# Altium footprint library Connector.PcbLib: 3 footprints
Each footprint in its own frame and in the unit in brackets; x right, y up, seen from the top. Pads: shape width x height; smd on the part's side, far side on the other; paste and mask are expansions set on the pad; w line width, h text height; cw(c..) or ccw(c..) is an arc to the next point about the centre after c.
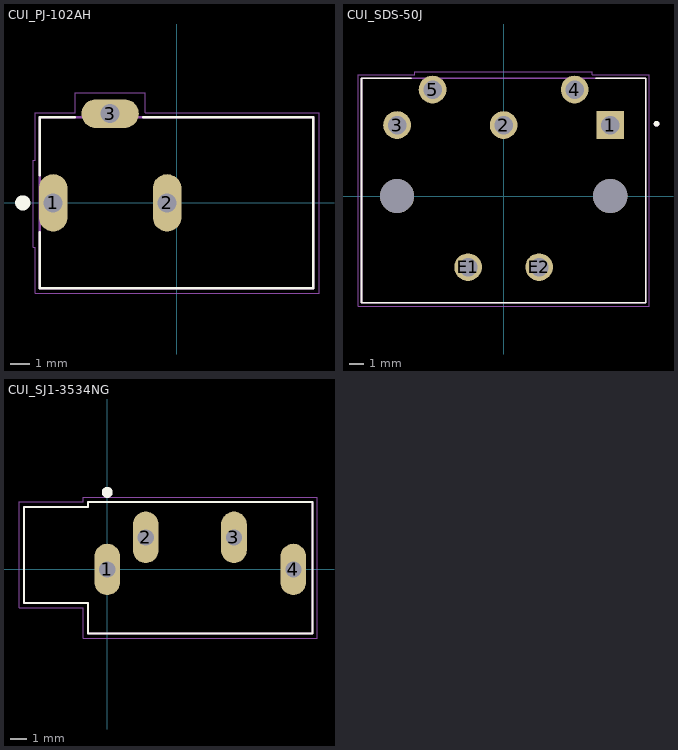
[diagram p0: the footprints below, top view; thin cyan lines are the x and y axes]

## CUI_PJ-102AH [mm]
pads (3):
  oval 1.508x3.016 hole 1 square: 1(-6.5,0) 2(-0.5,0)
  oval 3.016x1.508 hole 1 square: 3(-3.5,4.7)
Top Overlay:
  circle w0.4: c-8.1,0 r0.2
  lines w0.127: -7.2,-1.55 -7.2,-4.5 7.2,-4.5 7.2,4.5 -1.75,4.5 ; -7.2,1.45 -7.2,4.5 -5.35,4.5
Mechanical 13:
  lines w0.127: -7.2,-4.5 -7.2,4.5 7.2,4.5 7.2,-4.5 -7.2,-4.5
Mechanical 15:
  lines w0.05: -7.55,-2.35 -7.45,-2.35 -7.45,-4.75 7.5,-4.75 7.5,4.75 -1.65,4.75 -1.65,5.8 -5.35,5.8 -5.35,4.75 -7.45,4.75 -7.45,2.25 -7.55,2.25 -7.55,-2.35
3D body "PJ-102AH--3DModel-STEP-56544.STEP": height 11, standoff -3.5, extent -7.112,-4.446 7.288,4.954

## CUI_SDS-50J [mm]
pads (9):
  rect 1.95x1.95 hole 1.3: 1(7.5,5)
  round 1.95 hole 1.3: 2(0,5) 3(-7.5,5) 4(5,7.5) 5(-5,7.5) E1(-2.5,-5) E2(2.5,-5)
  round 2.4 hole 2.4 unplated: ""(-7.5,0) ""(7.5,0)
Top Overlay:
  circle w0.2: c10.764,5.094 r0.1
  lines w0.127: -6.5,8.3 -10,8.3 -10,-7.5 10,-7.5 10,8.3 6.5,8.3
Mechanical 13:
  circle w0.2: c10.764,5.094 r0.1
  lines w0.127: -10,-7.5 -10,8.3 10,8.3 10,-7.5 -10,-7.5
Mechanical 15:
  lines w0.05: -10.25,-7.75 -10.25,8.55 -6.25,8.55 -6.25,8.75 6.25,8.75 6.25,8.55 10.25,8.55 10.25,-7.75 -10.25,-7.75
3D body "SDS-50J--3DModel-STEP-56544.STEP": height 21.1, standoff -3.5, extent -10,-7.5 10,8.3

## CUI_SJ1-3534NG [mm]
pads (4):
  oval 1.6x3.2 hole 1 square: 1(0,0) 2(2.4,2) 3(7.9,2) 4(11.6,0)
Top Overlay:
  circle w0.34: c0,4.8 r0.17
  lines w0.127: -5.2,-2.1 -1.2,-2.1 -1.2,-4 12.8,-4 12.8,4.2 -1.2,4.2 -1.2,3.9 -5.2,3.9 -5.2,-2.1
Mechanical 13:
  lines w0.127: -5.2,-2.1 -1.2,-2.1 -1.2,-4 12.8,-4 12.8,4.2 -1.2,4.2 -1.2,3.9 -5.2,3.9 -5.2,-2.1
Mechanical 15:
  lines w0.05: -5.5,-2.4 -1.5,-2.4 -1.5,-4.3 13.1,-4.3 13.1,4.5 -1.5,4.5 -1.5,4.2 -5.5,4.2 -5.5,-2.4
3D body "CUI_DEVICES_SJ1-3534NG.step": height 12.3, standoff -3.3, extent -5.215,-4.009 12.835,4.191